# EAGLE library part RV-3029-C2 (library aurigaBot)
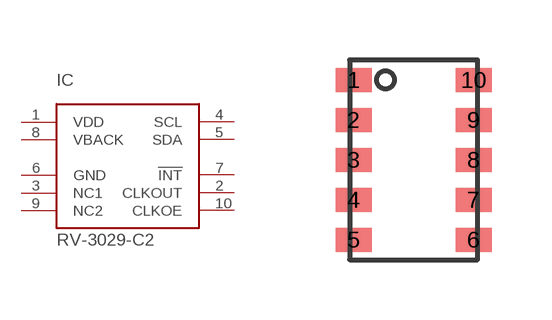
[diagram p6: symbol with the pads of DTCXO10; footprint DTCXO10]

Designator prefix IC

## RV-3029-C2  [DTCXO10]
1  VDD  pwr
2  CLKOUT  out
3  NC1  pwr
4  SCL  in
5  SDA
6  GND  pwr
7  !INT  out
8  VBACK  pwr
9  NC2  pwr
10  CLKOE  in

## Footprint DTCXO10 (pad centres in mm)
smd 0.9 x 0.6: 1 -1.5,2; 2 -1.5,1; 3 -1.5,0; 4 -1.5,-1; 5 -1.5,-2; 6 1.5,-2; 7 1.5,-1; 8 1.5,0; 9 1.5,1; 10 1.5,2